# EAGLE library part ME4057 (library pa-ind)
ME4057 single cell LiPo charger
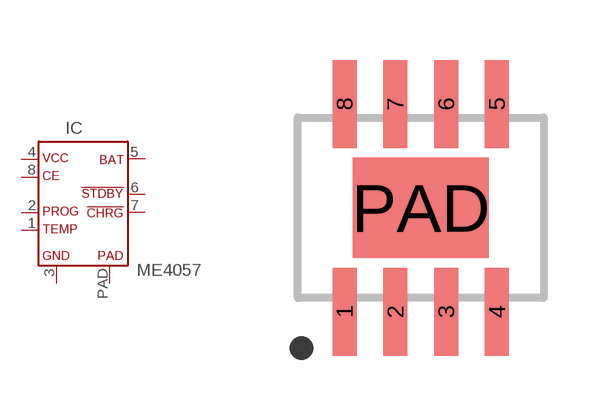
[diagram p0: symbol with the pads of SOP08-PP; footprint SOP08-PP]

Designator prefix IC

## ME4057  [SOP08-PP]
1  P$1  in
2  P$2  in
3  P$3  in
4  P$4  in
5  P$5  in
6  P$6  out
7  P$7  out
8  P$8  in
PAD  P$9  pas

## Footprint SOP08-PP (pad centres in mm)
SMALL OUTLINE PACKAGE WITH PAD
smd 0.6 x 2.2: 1 -1.905,-2.6; 2 -0.635,-2.6; 3 0.635,-2.6; 4 1.905,-2.6; 5 1.905,2.6; 6 0.635,2.6; 7 -0.635,2.6; 8 -1.905,2.6
smd 3.404 x 2.515: PAD 0,0